# Altium schematic symbol library jlcpcb_2025_04_ferrites_extended_1210.schlib: 35 symbols
Pins are listed as number, name and electrical type; pins without a type are passive.

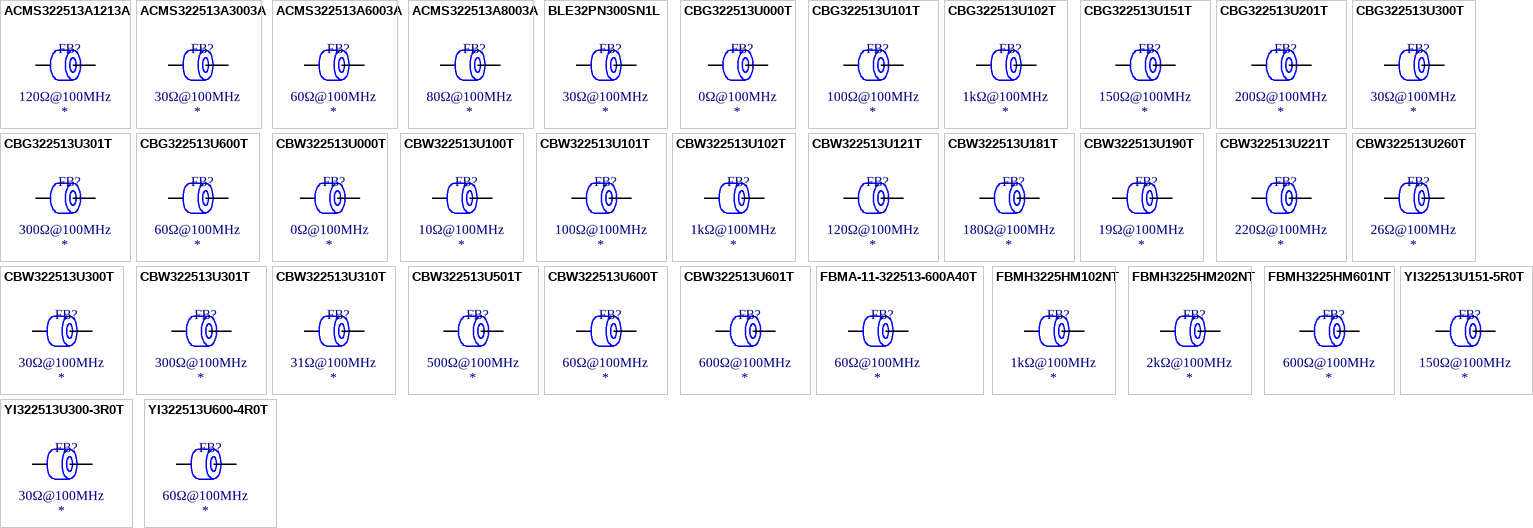
[diagram p0: symbols ACMS322513A1213A to YI322513U600-4R0T]

## ACMS322513A1213A
designator FB?  Impedance @ Frequency: 120Ω@100MHz
Ferrite, 120Ω@100MHz, ±25%, 100mΩ, 3A, SMD 1210; Manufacturer: HYHONGYEX; Manufacturer Part Number: ACMS322513A1213A; Package Size: 1210; JLCPCB Basic Part: No; JLCPCB Part Number: C963895; Supplier 1: LCSC; Category: Ferrite Beads; Supplier Part Number 1: C963895; Tolerance: ±25%; Rated Current: 3A; DC Resistance: 100mΩ; RoHS: Yes; ComponentLink1Description: Datasheet; ComponentLink1URL: https://wmsc.lcsc.com/wmsc/upload/file/pdf/v2/lcsc/2012171914_HYHONGYEX-ACMS322513A1213A_C963895.pdf; ComponentLink2Description: JLCPCB Part URL; ComponentLink2URL: https://jlcpcb.com/partdetail/C963895; ComponentLink3Description: LCSC Part URL; ComponentLink3URL: https://lcsc.com/product-detail/Ferrite-Beads_HYHONGYEX-HYHONGYEX-ACMS322513A1213A_C963895.html
footprint FB-1210 (1210 (3225M) Ferrite)
pins: 1, 2

## ACMS322513A3003A
designator FB?  Impedance @ Frequency: 30Ω@100MHz
Ferrite, 30Ω@100MHz, ±25%, 30mΩ, 3A, SMD 1210; Manufacturer: HYHONGYEX; Manufacturer Part Number: ACMS322513A3003A; Package Size: 1210; JLCPCB Basic Part: No; JLCPCB Part Number: C963890; Supplier 1: LCSC; Category: Ferrite Beads; Supplier Part Number 1: C963890; Tolerance: ±25%; Rated Current: 3A; DC Resistance: 30mΩ; RoHS: Yes; ComponentLink1Description: Datasheet; ComponentLink1URL: https://wmsc.lcsc.com/wmsc/upload/file/pdf/v2/lcsc/2012171914_HYHONGYEX-ACMS322513A3003A_C963890.pdf; ComponentLink2Description: JLCPCB Part URL; ComponentLink2URL: https://jlcpcb.com/partdetail/C963890; ComponentLink3Description: LCSC Part URL; ComponentLink3URL: https://lcsc.com/product-detail/Ferrite-Beads_HYHONGYEX-HYHONGYEX-ACMS322513A3003A_C963890.html
footprint FB-1210 (1210 (3225M) Ferrite)
pins: 1, 2

## ACMS322513A6003A
designator FB?  Impedance @ Frequency: 60Ω@100MHz
Ferrite, 60Ω@100MHz, ±25%, 30mΩ, 3A, SMD 1210; Manufacturer: HYHONGYEX; Manufacturer Part Number: ACMS322513A6003A; Package Size: 1210; JLCPCB Basic Part: No; JLCPCB Part Number: C963891; Supplier 1: LCSC; Category: Ferrite Beads; Supplier Part Number 1: C963891; Tolerance: ±25%; Rated Current: 3A; DC Resistance: 30mΩ; RoHS: Yes; ComponentLink1Description: Datasheet; ComponentLink1URL: https://wmsc.lcsc.com/wmsc/upload/file/pdf/v2/lcsc/2201131330_HYHONGYEX-ACMS322513A6003A_C963891.pdf; ComponentLink2Description: JLCPCB Part URL; ComponentLink2URL: https://jlcpcb.com/partdetail/C963891; ComponentLink3Description: LCSC Part URL; ComponentLink3URL: https://lcsc.com/product-detail/Ferrite-Beads_HYHONGYEX-HYHONGYEX-ACMS322513A6003A_C963891.html
footprint FB-1210 (1210 (3225M) Ferrite)
pins: 1, 2

## ACMS322513A8003A
designator FB?  Impedance @ Frequency: 80Ω@100MHz
Ferrite, 80Ω@100MHz, ±25%, 80mΩ, 3A, SMD 1210; Manufacturer: HYHONGYEX; Manufacturer Part Number: ACMS322513A8003A; Package Size: 1210; JLCPCB Basic Part: No; JLCPCB Part Number: C963893; Supplier 1: LCSC; Category: Ferrite Beads; Supplier Part Number 1: C963893; Tolerance: ±25%; Rated Current: 3A; DC Resistance: 80mΩ; RoHS: Yes; ComponentLink1Description: Datasheet; ComponentLink1URL: https://wmsc.lcsc.com/wmsc/upload/file/pdf/v2/lcsc/2012171914_HYHONGYEX-ACMS322513A8003A_C963893.pdf; ComponentLink2Description: JLCPCB Part URL; ComponentLink2URL: https://jlcpcb.com/partdetail/C963893; ComponentLink3Description: LCSC Part URL; ComponentLink3URL: https://lcsc.com/product-detail/Ferrite-Beads_HYHONGYEX-HYHONGYEX-ACMS322513A8003A_C963893.html
footprint FB-1210 (1210 (3225M) Ferrite)
pins: 1, 2

## BLE32PN300SN1L
designator FB?  Impedance @ Frequency: 30Ω@100MHz
Ferrite, 30Ω@100MHz, ±10%, 1.6mΩ, 10A, SMD 1210; Manufacturer: Murata Electronics; Manufacturer Part Number: BLE32PN300SN1L; Package Size: 1210; JLCPCB Basic Part: No; JLCPCB Part Number: C74172; Supplier 1: LCSC; Category: Ferrite Beads; Supplier Part Number 1: C74172; Tolerance: ±10%; Rated Current: 10A; DC Resistance: 1.6mΩ; RoHS: Yes; ComponentLink1Description: Datasheet; ComponentLink1URL: https://wmsc.lcsc.com/wmsc/upload/file/pdf/v2/lcsc/1810250922_Murata-Electronics-BLE32PN300SN1L_C74172.pdf; ComponentLink2Description: JLCPCB Part URL; ComponentLink2URL: https://jlcpcb.com/partdetail/C74172; ComponentLink3Description: LCSC Part URL; ComponentLink3URL: https://lcsc.com/product-detail/Ferrite-Beads_Murata-Electronics-Murata-Electronics-BLE32PN300SN1L_C74172.html
footprint FB-1210 (1210 (3225M) Ferrite)
pins: 1, 2

## CBG322513U000T
designator FB?  Impedance @ Frequency: 0Ω@100MHz
Ferrite, 0Ω@100MHz, ±25%, SMD 1210; Manufacturer: FH(Guangdong Fenghua Advanced Tech); Manufacturer Part Number: CBG322513U000T; Package Size: 1210; JLCPCB Basic Part: No; JLCPCB Part Number: C139157; Supplier 1: LCSC; Category: Ferrite Beads; Supplier Part Number 1: C139157; Tolerance: ±25%; RoHS: Yes; ComponentLink1Description: Datasheet; ComponentLink1URL: https://wmsc.lcsc.com/wmsc/upload/file/pdf/v2/lcsc/2304140030_FH--Guangdong-Fenghua-Advanced-Tech-CBG322513U000T_C139157.pdf; ComponentLink2Description: JLCPCB Part URL; ComponentLink2URL: https://jlcpcb.com/partdetail/C139157; ComponentLink3Description: LCSC Part URL; ComponentLink3URL: https://lcsc.com/product-detail/Ferrite-Beads_FH-Guangdong-Fenghua-Advanced-Tech-FH-Guangdong-Fenghua-Advanced-Tech-CBG322513U000T_C139157.html
pins: 1, 2

## CBG322513U101T
designator FB?  Impedance @ Frequency: 100Ω@100MHz
Ferrite, 100Ω@100MHz, ±25%, 200mΩ, 400mA, SMD 1210; Manufacturer: FH(Guangdong Fenghua Advanced Tech); Manufacturer Part Number: CBG322513U101T; Package Size: 1210; JLCPCB Basic Part: No; JLCPCB Part Number: C124104; Supplier 1: LCSC; Category: Ferrite Beads; Supplier Part Number 1: C124104; Tolerance: ±25%; Rated Current: 400mA; DC Resistance: 200mΩ; RoHS: Yes; ComponentLink1Description: Datasheet; ComponentLink1URL: https://wmsc.lcsc.com/wmsc/upload/file/pdf/v2/lcsc/2304140030_FH--Guangdong-Fenghua-Advanced-Tech-CBG322513U101T_C124104.pdf; ComponentLink2Description: JLCPCB Part URL; ComponentLink2URL: https://jlcpcb.com/partdetail/C124104; ComponentLink3Description: LCSC Part URL; ComponentLink3URL: https://lcsc.com/product-detail/Ferrite-Beads_FH-Guangdong-Fenghua-Advanced-Tech-FH-Guangdong-Fenghua-Advanced-Tech-CBG322513U101T_C124104.html
footprint FB-1210 (1210 (3225M) Ferrite)
pins: 1, 2

## CBG322513U102T
designator FB?  Impedance @ Frequency: 1kΩ@100MHz
Ferrite, 1kΩ@100MHz, ±25%, 400mΩ, 300mA, SMD 1210; Manufacturer: FH(Guangdong Fenghua Advanced Tech); Manufacturer Part Number: CBG322513U102T; Package Size: 1210; JLCPCB Basic Part: No; JLCPCB Part Number: C124093; Supplier 1: LCSC; Category: Ferrite Beads; Supplier Part Number 1: C124093; Tolerance: ±25%; Rated Current: 300mA; DC Resistance: 400mΩ; RoHS: Yes; ComponentLink1Description: Datasheet; ComponentLink1URL: https://wmsc.lcsc.com/wmsc/upload/file/pdf/v2/lcsc/2304140030_FH--Guangdong-Fenghua-Advanced-Tech-CBG322513U102T_C124093.pdf; ComponentLink2Description: JLCPCB Part URL; ComponentLink2URL: https://jlcpcb.com/partdetail/C124093; ComponentLink3Description: LCSC Part URL; ComponentLink3URL: https://lcsc.com/product-detail/Ferrite-Beads_FH-Guangdong-Fenghua-Advanced-Tech-FH-Guangdong-Fenghua-Advanced-Tech-CBG322513U102T_C124093.html
footprint FB-1210 (1210 (3225M) Ferrite)
pins: 1, 2

## CBG322513U151T
designator FB?  Impedance @ Frequency: 150Ω@100MHz
Ferrite, 150Ω@100MHz, ±25%, 300mΩ, 400mA, SMD 1210; Manufacturer: FH(Guangdong Fenghua Advanced Tech); Manufacturer Part Number: CBG322513U151T; Package Size: 1210; JLCPCB Basic Part: No; JLCPCB Part Number: C124097; Supplier 1: LCSC; Category: Ferrite Beads; Supplier Part Number 1: C124097; Tolerance: ±25%; Rated Current: 400mA; DC Resistance: 300mΩ; RoHS: Yes; ComponentLink1Description: Datasheet; ComponentLink1URL: https://wmsc.lcsc.com/wmsc/upload/file/pdf/v2/lcsc/2304140030_FH--Guangdong-Fenghua-Advanced-Tech-CBG322513U151T_C124097.pdf; ComponentLink2Description: JLCPCB Part URL; ComponentLink2URL: https://jlcpcb.com/partdetail/C124097; ComponentLink3Description: LCSC Part URL; ComponentLink3URL: https://lcsc.com/product-detail/Ferrite-Beads_FH-Guangdong-Fenghua-Advanced-Tech-FH-Guangdong-Fenghua-Advanced-Tech-CBG322513U151T_C124097.html
footprint FB-1210 (1210 (3225M) Ferrite)
pins: 1, 2

## CBG322513U201T
designator FB?  Impedance @ Frequency: 200Ω@100MHz
Ferrite, 200Ω@100MHz, ±25%, SMD 1210; Manufacturer: FH(Guangdong Fenghua Advanced Tech); Manufacturer Part Number: CBG322513U201T; Package Size: 1210; JLCPCB Basic Part: No; JLCPCB Part Number: C124096; Supplier 1: LCSC; Category: Ferrite Beads; Supplier Part Number 1: C124096; Tolerance: ±25%; RoHS: Yes; ComponentLink1Description: Datasheet; ComponentLink1URL: https://wmsc.lcsc.com/wmsc/upload/file/pdf/v2/lcsc/2304140030_FH--Guangdong-Fenghua-Advanced-Tech-CBG322513U201T_C124096.pdf; ComponentLink2Description: JLCPCB Part URL; ComponentLink2URL: https://jlcpcb.com/partdetail/C124096; ComponentLink3Description: LCSC Part URL; ComponentLink3URL: https://lcsc.com/product-detail/Ferrite-Beads_FH-Guangdong-Fenghua-Advanced-Tech-FH-Guangdong-Fenghua-Advanced-Tech-CBG322513U201T_C124096.html
pins: 1, 2

## CBG322513U300T
designator FB?  Impedance @ Frequency: 30Ω@100MHz
Ferrite, 30Ω@100MHz, ±25%, SMD 1210; Manufacturer: FH(Guangdong Fenghua Advanced Tech); Manufacturer Part Number: CBG322513U300T; Package Size: 1210; JLCPCB Basic Part: No; JLCPCB Part Number: C139158; Supplier 1: LCSC; Category: Ferrite Beads; Supplier Part Number 1: C139158; Tolerance: ±25%; RoHS: Yes; ComponentLink1Description: Datasheet; ComponentLink1URL: https://wmsc.lcsc.com/wmsc/upload/file/pdf/v2/lcsc/2304140030_FH--Guangdong-Fenghua-Advanced-Tech-CBG322513U300T_C139158.pdf; ComponentLink2Description: JLCPCB Part URL; ComponentLink2URL: https://jlcpcb.com/partdetail/C139158; ComponentLink3Description: LCSC Part URL; ComponentLink3URL: https://lcsc.com/product-detail/Ferrite-Beads_FH-Guangdong-Fenghua-Advanced-Tech-FH-Guangdong-Fenghua-Advanced-Tech-CBG322513U300T_C139158.html
pins: 1, 2

## CBG322513U301T
designator FB?  Impedance @ Frequency: 300Ω@100MHz
Ferrite, 300Ω@100MHz, ±25%, 400mΩ, 400mA, SMD 1210; Manufacturer: FH(Guangdong Fenghua Advanced Tech); Manufacturer Part Number: CBG322513U301T; Package Size: 1210; JLCPCB Basic Part: No; JLCPCB Part Number: C124095; Supplier 1: LCSC; Category: Ferrite Beads; Supplier Part Number 1: C124095; Tolerance: ±25%; Rated Current: 400mA; DC Resistance: 400mΩ; RoHS: Yes; ComponentLink1Description: Datasheet; ComponentLink1URL: https://wmsc.lcsc.com/wmsc/upload/file/pdf/v2/lcsc/2304140030_FH--Guangdong-Fenghua-Advanced-Tech-CBG322513U301T_C124095.pdf; ComponentLink2Description: JLCPCB Part URL; ComponentLink2URL: https://jlcpcb.com/partdetail/C124095; ComponentLink3Description: LCSC Part URL; ComponentLink3URL: https://lcsc.com/product-detail/Ferrite-Beads_FH-Guangdong-Fenghua-Advanced-Tech-FH-Guangdong-Fenghua-Advanced-Tech-CBG322513U301T_C124095.html
footprint FB-1210 (1210 (3225M) Ferrite)
pins: 1, 2

## CBG322513U600T
designator FB?  Impedance @ Frequency: 60Ω@100MHz
Ferrite, 60Ω@100MHz, ±25%, 150mΩ, 1A, SMD 1210; Manufacturer: FH(Guangdong Fenghua Advanced Tech); Manufacturer Part Number: CBG322513U600T; Package Size: 1210; JLCPCB Basic Part: No; JLCPCB Part Number: C139159; Supplier 1: LCSC; Category: Ferrite Beads; Supplier Part Number 1: C139159; Tolerance: ±25%; Rated Current: 1A; DC Resistance: 150mΩ; RoHS: Yes; ComponentLink1Description: Datasheet; ComponentLink1URL: https://wmsc.lcsc.com/wmsc/upload/file/pdf/v2/lcsc/2304140030_FH--Guangdong-Fenghua-Advanced-Tech-CBG322513U600T_C139159.pdf; ComponentLink2Description: JLCPCB Part URL; ComponentLink2URL: https://jlcpcb.com/partdetail/C139159; ComponentLink3Description: LCSC Part URL; ComponentLink3URL: https://lcsc.com/product-detail/Ferrite-Beads_FH-Guangdong-Fenghua-Advanced-Tech-FH-Guangdong-Fenghua-Advanced-Tech-CBG322513U600T_C139159.html
footprint FB-1210 (1210 (3225M) Ferrite)
pins: 1, 2

## CBW322513U000T
designator FB?  Impedance @ Frequency: 0Ω@100MHz
Ferrite, 0Ω@100MHz, ±25%, SMD 1210; Manufacturer: FH(Guangdong Fenghua Advanced Tech); Manufacturer Part Number: CBW322513U000T; Package Size: 1210; JLCPCB Basic Part: No; JLCPCB Part Number: C394509; Supplier 1: LCSC; Category: Ferrite Beads; Supplier Part Number 1: C394509; Tolerance: ±25%; RoHS: Yes; ComponentLink1Description: Datasheet; ComponentLink1URL: https://wmsc.lcsc.com/wmsc/upload/file/pdf/v2/lcsc/1912111437_FH--Guangdong-Fenghua-Advanced-Tech-CBW322513U000T_C394509.pdf; ComponentLink2Description: JLCPCB Part URL; ComponentLink2URL: https://jlcpcb.com/partdetail/C394509; ComponentLink3Description: LCSC Part URL; ComponentLink3URL: https://lcsc.com/product-detail/Ferrite-Beads_FH-Guangdong-Fenghua-Advanced-Tech-FH-Guangdong-Fenghua-Advanced-Tech-CBW322513U000T_C394509.html
pins: 1, 2

## CBW322513U100T
designator FB?  Impedance @ Frequency: 10Ω@100MHz
Ferrite, 10Ω@100MHz, ±25%, SMD 1210; Manufacturer: FH(Guangdong Fenghua Advanced Tech); Manufacturer Part Number: CBW322513U100T; Package Size: 1210; JLCPCB Basic Part: No; JLCPCB Part Number: C394510; Supplier 1: LCSC; Category: Ferrite Beads; Supplier Part Number 1: C394510; Tolerance: ±25%; RoHS: Yes; ComponentLink1Description: Datasheet; ComponentLink1URL: https://wmsc.lcsc.com/wmsc/upload/file/pdf/v2/lcsc/1912111437_FH--Guangdong-Fenghua-Advanced-Tech-CBW322513U100T_C394510.pdf; ComponentLink2Description: JLCPCB Part URL; ComponentLink2URL: https://jlcpcb.com/partdetail/C394510; ComponentLink3Description: LCSC Part URL; ComponentLink3URL: https://lcsc.com/product-detail/Ferrite-Beads_FH-Guangdong-Fenghua-Advanced-Tech-FH-Guangdong-Fenghua-Advanced-Tech-CBW322513U100T_C394510.html
pins: 1, 2

## CBW322513U101T
designator FB?  Impedance @ Frequency: 100Ω@100MHz
Ferrite, 100Ω@100MHz, ±25%, SMD 1210; Manufacturer: FH(Guangdong Fenghua Advanced Tech); Manufacturer Part Number: CBW322513U101T; Package Size: 1210; JLCPCB Basic Part: No; JLCPCB Part Number: C139202; Supplier 1: LCSC; Category: Ferrite Beads; Supplier Part Number 1: C139202; Tolerance: ±25%; RoHS: Yes; ComponentLink1Description: Datasheet; ComponentLink1URL: https://wmsc.lcsc.com/wmsc/upload/file/pdf/v2/lcsc/2304140030_FH--Guangdong-Fenghua-Advanced-Tech-CBW322513U101T_C139202.pdf; ComponentLink2Description: JLCPCB Part URL; ComponentLink2URL: https://jlcpcb.com/partdetail/C139202; ComponentLink3Description: LCSC Part URL; ComponentLink3URL: https://lcsc.com/product-detail/Ferrite-Beads_FH-Guangdong-Fenghua-Advanced-Tech-FH-Guangdong-Fenghua-Advanced-Tech-CBW322513U101T_C139202.html
pins: 1, 2

## CBW322513U102T
designator FB?  Impedance @ Frequency: 1kΩ@100MHz
Ferrite, 1kΩ@100MHz, ±25%, 300mΩ, 2A, SMD 1210; Manufacturer: FH(Guangdong Fenghua Advanced Tech); Manufacturer Part Number: CBW322513U102T; Package Size: 1210; JLCPCB Basic Part: No; JLCPCB Part Number: C174308; Supplier 1: LCSC; Category: Ferrite Beads; Supplier Part Number 1: C174308; Tolerance: ±25%; Rated Current: 2A; DC Resistance: 300mΩ; RoHS: Yes; ComponentLink1Description: Datasheet; ComponentLink1URL: https://wmsc.lcsc.com/wmsc/upload/file/pdf/v2/lcsc/2304140030_FH--Guangdong-Fenghua-Advanced-Tech-CBW322513U102T_C174308.pdf; ComponentLink2Description: JLCPCB Part URL; ComponentLink2URL: https://jlcpcb.com/partdetail/C174308; ComponentLink3Description: LCSC Part URL; ComponentLink3URL: https://lcsc.com/product-detail/Ferrite-Beads_FH-Guangdong-Fenghua-Advanced-Tech-FH-Guangdong-Fenghua-Advanced-Tech-CBW322513U102T_C174308.html
footprint FB-1210 (1210 (3225M) Ferrite)
pins: 1, 2

## CBW322513U121T
designator FB?  Impedance @ Frequency: 120Ω@100MHz
Ferrite, 120Ω@100MHz, ±25%, 100mΩ, 3A, SMD 1210; Manufacturer: FH(Guangdong Fenghua Advanced Tech); Manufacturer Part Number: CBW322513U121T; Package Size: 1210; JLCPCB Basic Part: No; JLCPCB Part Number: C394511; Supplier 1: LCSC; Category: Ferrite Beads; Supplier Part Number 1: C394511; Tolerance: ±25%; Rated Current: 3A; DC Resistance: 100mΩ; RoHS: Yes; ComponentLink1Description: Datasheet; ComponentLink1URL: https://wmsc.lcsc.com/wmsc/upload/file/pdf/v2/lcsc/2304140030_FH--Guangdong-Fenghua-Advanced-Tech-CBW322513U121T_C394511.pdf; ComponentLink2Description: JLCPCB Part URL; ComponentLink2URL: https://jlcpcb.com/partdetail/C394511; ComponentLink3Description: LCSC Part URL; ComponentLink3URL: https://lcsc.com/product-detail/Ferrite-Beads_FH-Guangdong-Fenghua-Advanced-Tech-FH-Guangdong-Fenghua-Advanced-Tech-CBW322513U121T_C394511.html
footprint FB-1210 (1210 (3225M) Ferrite)
pins: 1, 2

## CBW322513U181T
designator FB?  Impedance @ Frequency: 180Ω@100MHz
Ferrite, 180Ω@100MHz, ±25%, SMD 1210; Manufacturer: FH(Guangdong Fenghua Advanced Tech); Manufacturer Part Number: CBW322513U181T; Package Size: 1210; JLCPCB Basic Part: No; JLCPCB Part Number: C1322414; Supplier 1: LCSC; Category: Ferrite Beads; Supplier Part Number 1: C1322414; Tolerance: ±25%; RoHS: Yes; ComponentLink1Description: Datasheet; ComponentLink1URL: https://wmsc.lcsc.com/wmsc/upload/file/pdf/v2/lcsc/2012211538_FH--Guangdong-Fenghua-Advanced-Tech-CBW322513U181T_C1322414.pdf; ComponentLink2Description: JLCPCB Part URL; ComponentLink2URL: https://jlcpcb.com/partdetail/C1322414; ComponentLink3Description: LCSC Part URL; ComponentLink3URL: https://lcsc.com/product-detail/Ferrite-Beads_FH-Guangdong-Fenghua-Advanced-Tech-FH-Guangdong-Fenghua-Advanced-Tech-CBW322513U181T_C1322414.html
pins: 1, 2

## CBW322513U190T
designator FB?  Impedance @ Frequency: 19Ω@100MHz
Ferrite, 19Ω@100MHz, 50mΩ, 5A, SMD 1210; Manufacturer: FH(Guangdong Fenghua Advanced Tech); Manufacturer Part Number: CBW322513U190T; Package Size: 1210; JLCPCB Basic Part: No; JLCPCB Part Number: C304173; Supplier 1: LCSC; Category: Ferrite Beads; Supplier Part Number 1: C304173; Rated Current: 5A; DC Resistance: 50mΩ; RoHS: Yes; ComponentLink1Description: Datasheet; ComponentLink1URL: https://wmsc.lcsc.com/wmsc/upload/file/pdf/v2/lcsc/1912111437_FH--Guangdong-Fenghua-Advanced-Tech-CBW322513U190T_C304173.pdf; ComponentLink2Description: JLCPCB Part URL; ComponentLink2URL: https://jlcpcb.com/partdetail/C304173; ComponentLink3Description: LCSC Part URL; ComponentLink3URL: https://lcsc.com/product-detail/Ferrite-Beads_FH-Guangdong-Fenghua-Advanced-Tech-FH-Guangdong-Fenghua-Advanced-Tech-CBW322513U190T_C304173.html
pins: 1, 2

## CBW322513U221T
designator FB?  Impedance @ Frequency: 220Ω@100MHz
Ferrite, 220Ω@100MHz, ±25%, 150mΩ, 3A, SMD 1210; Manufacturer: FH(Guangdong Fenghua Advanced Tech); Manufacturer Part Number: CBW322513U221T; Package Size: 1210; JLCPCB Basic Part: No; JLCPCB Part Number: C394512; Supplier 1: LCSC; Category: Ferrite Beads; Supplier Part Number 1: C394512; Tolerance: ±25%; Rated Current: 3A; DC Resistance: 150mΩ; RoHS: Yes; ComponentLink1Description: Datasheet; ComponentLink1URL: https://wmsc.lcsc.com/wmsc/upload/file/pdf/v2/lcsc/2304140030_FH--Guangdong-Fenghua-Advanced-Tech-CBW322513U221T_C394512.pdf; ComponentLink2Description: JLCPCB Part URL; ComponentLink2URL: https://jlcpcb.com/partdetail/C394512; ComponentLink3Description: LCSC Part URL; ComponentLink3URL: https://lcsc.com/product-detail/Ferrite-Beads_FH-Guangdong-Fenghua-Advanced-Tech-FH-Guangdong-Fenghua-Advanced-Tech-CBW322513U221T_C394512.html
footprint FB-1210 (1210 (3225M) Ferrite)
pins: 1, 2

## CBW322513U260T
designator FB?  Impedance @ Frequency: 26Ω@100MHz
Ferrite, 26Ω@100MHz, ±25%, 50mΩ, 5A, SMD 1210; Manufacturer: FH(Guangdong Fenghua Advanced Tech); Manufacturer Part Number: CBW322513U260T; Package Size: 1210; JLCPCB Basic Part: No; JLCPCB Part Number: C394513; Supplier 1: LCSC; Category: Ferrite Beads; Supplier Part Number 1: C394513; Tolerance: ±25%; Rated Current: 5A; DC Resistance: 50mΩ; RoHS: Yes; ComponentLink1Description: Datasheet; ComponentLink1URL: https://wmsc.lcsc.com/wmsc/upload/file/pdf/v2/lcsc/2304140030_FH--Guangdong-Fenghua-Advanced-Tech-CBW322513U260T_C394513.pdf; ComponentLink2Description: JLCPCB Part URL; ComponentLink2URL: https://jlcpcb.com/partdetail/C394513; ComponentLink3Description: LCSC Part URL; ComponentLink3URL: https://lcsc.com/product-detail/Ferrite-Beads_FH-Guangdong-Fenghua-Advanced-Tech-FH-Guangdong-Fenghua-Advanced-Tech-CBW322513U260T_C394513.html
footprint FB-1210 (1210 (3225M) Ferrite)
pins: 1, 2

## CBW322513U300T
designator FB?  Impedance @ Frequency: 30Ω@100MHz
Ferrite, 30Ω@100MHz, ±25%, SMD 1210; Manufacturer: FH(Guangdong Fenghua Advanced Tech); Manufacturer Part Number: CBW322513U300T; Package Size: 1210; JLCPCB Basic Part: No; JLCPCB Part Number: C394514; Supplier 1: LCSC; Category: Ferrite Beads; Supplier Part Number 1: C394514; Tolerance: ±25%; RoHS: Yes; ComponentLink1Description: Datasheet; ComponentLink1URL: https://wmsc.lcsc.com/wmsc/upload/file/pdf/v2/lcsc/1912111437_FH--Guangdong-Fenghua-Advanced-Tech-CBW322513U300T_C394514.pdf; ComponentLink2Description: JLCPCB Part URL; ComponentLink2URL: https://jlcpcb.com/partdetail/C394514; ComponentLink3Description: LCSC Part URL; ComponentLink3URL: https://lcsc.com/product-detail/Ferrite-Beads_FH-Guangdong-Fenghua-Advanced-Tech-FH-Guangdong-Fenghua-Advanced-Tech-CBW322513U300T_C394514.html
pins: 1, 2

## CBW322513U301T
designator FB?  Impedance @ Frequency: 300Ω@100MHz
Ferrite, 300Ω@100MHz, ±25%, 150mΩ, 3A, SMD 1210; Manufacturer: FH(Guangdong Fenghua Advanced Tech); Manufacturer Part Number: CBW322513U301T; Package Size: 1210; JLCPCB Basic Part: No; JLCPCB Part Number: C394515; Supplier 1: LCSC; Category: Ferrite Beads; Supplier Part Number 1: C394515; Tolerance: ±25%; Rated Current: 3A; DC Resistance: 150mΩ; RoHS: Yes; ComponentLink1Description: Datasheet; ComponentLink1URL: https://wmsc.lcsc.com/wmsc/upload/file/pdf/v2/lcsc/2304140030_FH--Guangdong-Fenghua-Advanced-Tech-CBW322513U301T_C394515.pdf; ComponentLink2Description: JLCPCB Part URL; ComponentLink2URL: https://jlcpcb.com/partdetail/C394515; ComponentLink3Description: LCSC Part URL; ComponentLink3URL: https://lcsc.com/product-detail/Ferrite-Beads_FH-Guangdong-Fenghua-Advanced-Tech-FH-Guangdong-Fenghua-Advanced-Tech-CBW322513U301T_C394515.html
footprint FB-1210 (1210 (3225M) Ferrite)
pins: 1, 2

## CBW322513U310T
designator FB?  Impedance @ Frequency: 31Ω@100MHz
Ferrite, 31Ω@100MHz, ±25%, 50mΩ, 5A, SMD 1210; Manufacturer: FH(Guangdong Fenghua Advanced Tech); Manufacturer Part Number: CBW322513U310T; Package Size: 1210; JLCPCB Basic Part: No; JLCPCB Part Number: C394516; Supplier 1: LCSC; Category: Ferrite Beads; Supplier Part Number 1: C394516; Tolerance: ±25%; Rated Current: 5A; DC Resistance: 50mΩ; RoHS: Yes; ComponentLink1Description: Datasheet; ComponentLink1URL: https://wmsc.lcsc.com/wmsc/upload/file/pdf/v2/lcsc/2304140030_FH--Guangdong-Fenghua-Advanced-Tech-CBW322513U310T_C394516.pdf; ComponentLink2Description: JLCPCB Part URL; ComponentLink2URL: https://jlcpcb.com/partdetail/C394516; ComponentLink3Description: LCSC Part URL; ComponentLink3URL: https://lcsc.com/product-detail/Ferrite-Beads_FH-Guangdong-Fenghua-Advanced-Tech-FH-Guangdong-Fenghua-Advanced-Tech-CBW322513U310T_C394516.html
footprint FB-1210 (1210 (3225M) Ferrite)
pins: 1, 2

## CBW322513U501T
designator FB?  Impedance @ Frequency: 500Ω@100MHz
Ferrite, 500Ω@100MHz, ±25%, 150mΩ, 2A, SMD 1210; Manufacturer: FH(Guangdong Fenghua Advanced Tech); Manufacturer Part Number: CBW322513U501T; Package Size: 1210; JLCPCB Basic Part: No; JLCPCB Part Number: C394517; Supplier 1: LCSC; Category: Ferrite Beads; Supplier Part Number 1: C394517; Tolerance: ±25%; Rated Current: 2A; DC Resistance: 150mΩ; RoHS: Yes; ComponentLink1Description: Datasheet; ComponentLink1URL: https://wmsc.lcsc.com/wmsc/upload/file/pdf/v2/lcsc/2304140030_FH--Guangdong-Fenghua-Advanced-Tech-CBW322513U501T_C394517.pdf; ComponentLink2Description: JLCPCB Part URL; ComponentLink2URL: https://jlcpcb.com/partdetail/C394517; ComponentLink3Description: LCSC Part URL; ComponentLink3URL: https://lcsc.com/product-detail/Ferrite-Beads_FH-Guangdong-Fenghua-Advanced-Tech-FH-Guangdong-Fenghua-Advanced-Tech-CBW322513U501T_C394517.html
footprint FB-1210 (1210 (3225M) Ferrite)
pins: 1, 2

## CBW322513U600T
designator FB?  Impedance @ Frequency: 60Ω@100MHz
Ferrite, 60Ω@100MHz, ±25%, 60mΩ, 4A, SMD 1210; Manufacturer: FH(Guangdong Fenghua Advanced Tech); Manufacturer Part Number: CBW322513U600T; Package Size: 1210; JLCPCB Basic Part: No; JLCPCB Part Number: C361677; Supplier 1: LCSC; Category: Ferrite Beads; Supplier Part Number 1: C361677; Tolerance: ±25%; Rated Current: 4A; DC Resistance: 60mΩ; RoHS: Yes; ComponentLink1Description: Datasheet; ComponentLink1URL: https://wmsc.lcsc.com/wmsc/upload/file/pdf/v2/lcsc/1912111437_FH--Guangdong-Fenghua-Advanced-Tech-CBW322513U600T_C361677.pdf; ComponentLink2Description: JLCPCB Part URL; ComponentLink2URL: https://jlcpcb.com/partdetail/C361677; ComponentLink3Description: LCSC Part URL; ComponentLink3URL: https://lcsc.com/product-detail/Ferrite-Beads_FH-Guangdong-Fenghua-Advanced-Tech-FH-Guangdong-Fenghua-Advanced-Tech-CBW322513U600T_C361677.html
footprint FB-1210 (1210 (3225M) Ferrite)
pins: 1, 2

## CBW322513U601T
designator FB?  Impedance @ Frequency: 600Ω@100MHz
Ferrite, 600Ω@100MHz, ±25%, 200mΩ, 2A, SMD 1210; Manufacturer: FH(Guangdong Fenghua Advanced Tech); Manufacturer Part Number: CBW322513U601T; Package Size: 1210; JLCPCB Basic Part: No; JLCPCB Part Number: C139203; Supplier 1: LCSC; Category: Ferrite Beads; Supplier Part Number 1: C139203; Tolerance: ±25%; Rated Current: 2A; DC Resistance: 200mΩ; RoHS: Yes; ComponentLink1Description: Datasheet; ComponentLink1URL: https://wmsc.lcsc.com/wmsc/upload/file/pdf/v2/lcsc/2304140030_FH--Guangdong-Fenghua-Advanced-Tech-CBW322513U601T_C139203.pdf; ComponentLink2Description: JLCPCB Part URL; ComponentLink2URL: https://jlcpcb.com/partdetail/C139203; ComponentLink3Description: LCSC Part URL; ComponentLink3URL: https://lcsc.com/product-detail/Ferrite-Beads_FH-Guangdong-Fenghua-Advanced-Tech-FH-Guangdong-Fenghua-Advanced-Tech-CBW322513U601T_C139203.html
footprint FB-1210 (1210 (3225M) Ferrite)
pins: 1, 2

## FBMA-11-322513-600A40T
designator FB?  Impedance @ Frequency: 60Ω@100MHz
Ferrite, 60Ω@100MHz, ±25%, 35mΩ, 4A, SMD 1210; Manufacturer: Kingcore; Manufacturer Part Number: FBMA-11-322513-600A40T; Package Size: 1210; JLCPCB Basic Part: No; JLCPCB Part Number: C491641; Supplier 1: LCSC; Category: Ferrite Beads; Supplier Part Number 1: C491641; Tolerance: ±25%; Rated Current: 4A; DC Resistance: 35mΩ; RoHS: Yes; ComponentLink1Description: Datasheet; ComponentLink1URL: https://datasheet.lcsc.com/lcsc/2003182012_Kingcore-FBMA-11-322513-600A40T_C491641.pdf; ComponentLink2Description: JLCPCB Part URL; ComponentLink2URL: https://jlcpcb.com/partdetail/C491641; ComponentLink3Description: LCSC Part URL; ComponentLink3URL: https://lcsc.com/product-detail/Ferrite-Beads_Kingcore-Kingcore-FBMA-11-322513-600A40T_C491641.html
footprint FB-1210 (1210 (3225M) Ferrite)
pins: 1, 2

## FBMH3225HM102NT
designator FB?  Impedance @ Frequency: 1kΩ@100MHz
Ferrite, 1kΩ@100MHz, ±30%, 100mΩ, 2A, SMD 1210; Manufacturer: Taiyo Yuden; Manufacturer Part Number: FBMH3225HM102NT; Package Size: 1210; JLCPCB Basic Part: No; JLCPCB Part Number: C21520; Supplier 1: LCSC; Category: Ferrite Beads; Supplier Part Number 1: C21520; Tolerance: ±30%; Rated Current: 2A; DC Resistance: 100mΩ; RoHS: Yes; ComponentLink1Description: Datasheet; ComponentLink1URL: https://wmsc.lcsc.com/wmsc/upload/file/pdf/v2/lcsc/1810171811_Taiyo-Yuden-FBMH3225HM102NT_C21520.pdf; ComponentLink2Description: JLCPCB Part URL; ComponentLink2URL: https://jlcpcb.com/partdetail/C21520; ComponentLink3Description: LCSC Part URL; ComponentLink3URL: https://lcsc.com/product-detail/Ferrite-Beads_Taiyo-Yuden-Taiyo-Yuden-FBMH3225HM102NT_C21520.html
footprint FB-1210 (1210 (3225M) Ferrite)
pins: 1, 2

## FBMH3225HM202NT
designator FB?  Impedance @ Frequency: 2kΩ@100MHz
Ferrite, 2kΩ@100MHz, ±30%, 0.13Ω, 1.2A, SMD 1210; Manufacturer: Taiyo Yuden; Manufacturer Part Number: FBMH3225HM202NT; Package Size: 1210; JLCPCB Basic Part: No; JLCPCB Part Number: C2661428; Supplier 1: LCSC; Category: Ferrite Beads; Supplier Part Number 1: C2661428; Tolerance: ±30%; Rated Current: 1.2A; DC Resistance: 0.13Ω; RoHS: Yes; ComponentLink1Description: Datasheet; ComponentLink1URL: https://wmsc.lcsc.com/wmsc/upload/file/pdf/v2/lcsc/2309051352_Taiyo-Yuden-FBMH3225HM202NT_C2661428.pdf; ComponentLink2Description: JLCPCB Part URL; ComponentLink2URL: https://jlcpcb.com/partdetail/C2661428; ComponentLink3Description: LCSC Part URL; ComponentLink3URL: https://lcsc.com/product-detail/Ferrite-Beads_Taiyo-Yuden-Taiyo-Yuden-FBMH3225HM202NT_C2661428.html
footprint FB-1210 (1210 (3225M) Ferrite)
pins: 1, 2

## FBMH3225HM601NT
designator FB?  Impedance @ Frequency: 600Ω@100MHz
Ferrite, 600Ω@100MHz, ±30%, 42mΩ, 3A, SMD 1210; Manufacturer: Taiyo Yuden; Manufacturer Part Number: FBMH3225HM601NT; Package Size: 1210; JLCPCB Basic Part: No; JLCPCB Part Number: C268004; Supplier 1: LCSC; Category: Ferrite Beads; Supplier Part Number 1: C268004; Tolerance: ±30%; Rated Current: 3A; DC Resistance: 42mΩ; RoHS: Yes; ComponentLink1Description: Datasheet; ComponentLink1URL: https://wmsc.lcsc.com/wmsc/upload/file/pdf/v2/lcsc/1810171820_Taiyo-Yuden-FBMH3225HM601NT_C268004.pdf; ComponentLink2Description: JLCPCB Part URL; ComponentLink2URL: https://jlcpcb.com/partdetail/C268004; ComponentLink3Description: LCSC Part URL; ComponentLink3URL: https://lcsc.com/product-detail/Ferrite-Beads_Taiyo-Yuden-Taiyo-Yuden-FBMH3225HM601NT_C268004.html
footprint FB-1210 (1210 (3225M) Ferrite)
pins: 1, 2

## YI322513U151-5R0T
designator FB?  Impedance @ Frequency: 150Ω@100MHz
Ferrite, 150Ω@100MHz, ±25%, 20mΩ, 5A, SMD 1210; Manufacturer: YJYCOIN; Manufacturer Part Number: YI322513U151-5R0T; Package Size: 1210; JLCPCB Basic Part: No; JLCPCB Part Number: C20626544; Supplier 1: LCSC; Category: Ferrite Beads; Supplier Part Number 1: C20626544; Tolerance: ±25%; Rated Current: 5A; DC Resistance: 20mΩ; RoHS: Yes; ComponentLink1Description: Datasheet; ComponentLink1URL: https://wmsc.lcsc.com/wmsc/upload/file/pdf/v2/lcsc/2402291512_YJYCOIN-YI322513U151-5R0T_C20626544.pdf; ComponentLink2Description: JLCPCB Part URL; ComponentLink2URL: https://jlcpcb.com/partdetail/C20626544; ComponentLink3Description: LCSC Part URL; ComponentLink3URL: https://lcsc.com/product-detail/Ferrite-Beads_YJYCOIN-YJYCOIN-YI322513U151-5R0T_C20626544.html
footprint FB-1210 (1210 (3225M) Ferrite)
pins: 1, 2

## YI322513U300-3R0T
designator FB?  Impedance @ Frequency: 30Ω@100MHz
Ferrite, 30Ω@100MHz, ±25%, 50mΩ, 3A, SMD 1210; Manufacturer: YJYCOIN; Manufacturer Part Number: YI322513U300-3R0T; Package Size: 1210; JLCPCB Basic Part: No; JLCPCB Part Number: C3033923; Supplier 1: LCSC; Category: Ferrite Beads; Supplier Part Number 1: C3033923; Tolerance: ±25%; Rated Current: 3A; DC Resistance: 50mΩ; RoHS: Yes; ComponentLink1Description: Datasheet; ComponentLink1URL: https://wmsc.lcsc.com/wmsc/upload/file/pdf/v2/lcsc/2206151201_YJYCOIN-YI322513U300-3R0T_C3033923.pdf; ComponentLink2Description: JLCPCB Part URL; ComponentLink2URL: https://jlcpcb.com/partdetail/C3033923; ComponentLink3Description: LCSC Part URL; ComponentLink3URL: https://lcsc.com/product-detail/Ferrite-Beads_YJYCOIN-YJYCOIN-YI322513U300-3R0T_C3033923.html
footprint FB-1210 (1210 (3225M) Ferrite)
pins: 1, 2

## YI322513U600-4R0T
designator FB?  Impedance @ Frequency: 60Ω@100MHz
Ferrite, 60Ω@100MHz, ±25%, 0.03Ω, 4A, SMD 1210; Manufacturer: YJYCOIN; Manufacturer Part Number: YI322513U600-4R0T; Package Size: 1210; JLCPCB Basic Part: No; JLCPCB Part Number: C3033924; Supplier 1: LCSC; Category: Ferrite Beads; Supplier Part Number 1: C3033924; Tolerance: ±25%; Rated Current: 4A; DC Resistance: 0.03Ω; RoHS: Yes; ComponentLink1Description: Datasheet; ComponentLink1URL: https://wmsc.lcsc.com/wmsc/upload/file/pdf/v2/lcsc/2206151201_YJYCOIN-YI322513U600-4R0T_C3033924.pdf; ComponentLink2Description: JLCPCB Part URL; ComponentLink2URL: https://jlcpcb.com/partdetail/C3033924; ComponentLink3Description: LCSC Part URL; ComponentLink3URL: https://lcsc.com/product-detail/Ferrite-Beads_YJYCOIN-YJYCOIN-YI322513U600-4R0T_C3033924.html
footprint FB-1210 (1210 (3225M) Ferrite)
pins: 1, 2